# Altium schematic symbol library SCH - POWER - SWITCHMODE - TI TPS65193_RGE_24.SchLib: 1 symbol
Pins are listed as number, name and electrical type; pins without a type are passive.

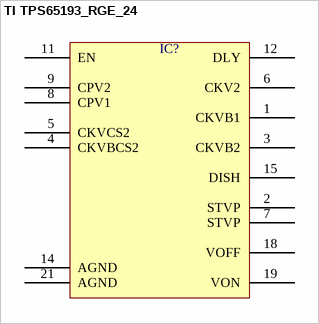
[diagram p0: symbol TI TPS65193_RGE_24]

## TI TPS65193_RGE_24
designator IC?  (value not drawn)
pins: 1 CKVB1, 2 STVP, 3 CKVB2, 4 CKVBCS2, 5 CKVCS2, 6 CKV2, 7 STVP, 8 CPV1, 9 CPV2, 11 EN, 12 DLY, 14 AGND, 15 DISH, 18 VOFF, 19 VON, 21 AGND